# Altium schematic symbol library OpAmp_Linear_Technology_ LTC6269HDD#PBF_500Mhz.SchLib: 1 symbol
Pins are listed as number, name and electrical type; pins without a type are passive.

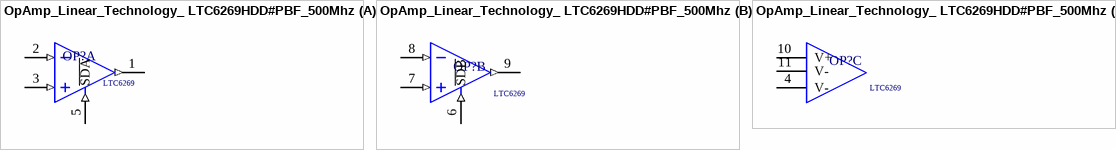
[diagram p0: symbol OpAmp_Linear_Technology_ LTC6269HDD#PBF_500Mhz]

## OpAmp_Linear_Technology_ LTC6269HDD#PBF_500Mhz
designator OP?  Series: LTC6269  (hidden comment: OpAmp_Linear_Technology_ LTC6269HDD#PBF_500Mhz)
IC OPAMP 500MHZ DUAL FET 10DFN; Supplier 1: Digi-Key; Supplier Part Number 1: LTC6269HDD#PBF-ND
footprint OpAmp_Linear_Technology_ LTC6269HDD#PBF_500Mhz
part A pins: 1 OUT A (out), 2 IN A- (in), 3 IN A+ (in), 5 ~{SDA} (in)
part B pins: 6 ~{SDB} (in), 7 IN A+ (in), 8 IN A- (in), 9 OUT A (out)
part C pins: 4 V- (power), 10 V+ (power), 11 V- (power)